# Altium footprint library SFECV10M7.pcblib: 1 footprints
Each footprint in its own frame and in the unit in brackets; x right, y up, seen from the top. Pads: shape width x height; smd on the part's side, far side on the other; paste and mask are expansions set on the pad; w line width, h text height; cw(c..) or ccw(c..) is an arc to the next point about the centre after c.
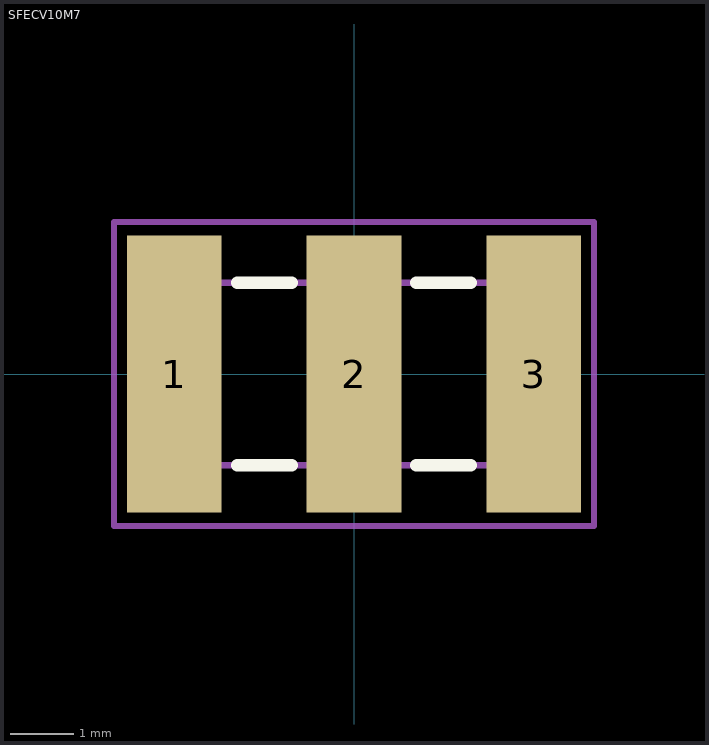
[diagram p0: the footprint, top view; thin cyan lines are the x and y axes]

## SFECV10M7 [mm]
pads (3):
  rect 1.5x4.4 smd: 1(-2.85,0) 2(0,0) 3(2.85,0)
Top Overlay:
  lines w0.2: -1.854,-1.448 -0.991,-1.448 ; -1.854,1.448 -0.991,1.448 ; 0.991,-1.45 1.854,-1.45 ; 0.991,1.448 1.854,1.448
Mechanical 13:
  lines w0.1: -3.429,-1.45 3.429,-1.45 3.429,1.45 -3.429,1.45 -3.429,-1.45
Mechanical 15:
  lines w0.1: -0.5,0 0.5,0 ; 0,-0.5 0,0.5 ; -3.81,-2.413 3.81,-2.413 3.81,2.413 -3.81,2.413 -3.81,-2.413
Mechanical 17:
  text "'.Designator'" at -3.048,-0.127 h0.61
Mechanical 19:
  text "'.Comment'" at -3.048,-0.127 h0.61
3D body "User Library-SFECV.STEP": height 1.53, standoff 0.01, extent -3.5,-1.524 3.5,1.496